# Altium integrated library 74HC4053D.IntLib: 2 symbols
Pins are listed as number, name and electrical type; pins without a type are passive.

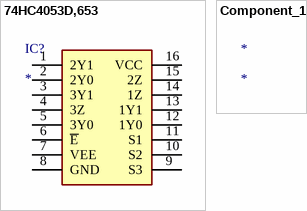
[diagram p0: symbols 74HC4053D,653 to Component_1]

## 74HC4053D,653
designator IC?
Integrated Circuit; Manufacturer_Name: Nexperia; Manufacturer_Part_Number: 74HC4053D,653; Description: 74HC(T)4053 - Triple 2-channel analog multiplexer/demultiplexer@en-us; Datasheet Link: https://assets.nexperia.com/documents/data-sheet/74HC_HCT4053.pdf; Height: 1.75mm; Arrow Part Number: 74HC4053D,653; Arrow Price/Stock: https://www.arrow.com/en/products/74hc4053d653/nexperia; Mouser Part Number: 771-74HC4053D-T; Mouser Price/Stock: https://www.mouser.co.uk/ProductDetail/Nexperia/74HC4053D653?qs=P62ublwmbi%2F49q4%252B0dLSpg%3D%3D
footprint SOIC127P600X175-16N
pins: 1 2Y1, 2 2Y0, 3 3Y1, 4 3Z, 5 3Y0, 6 ~{E}, 7 VEE, 8 GND, 9 S3, 10 S2, 11 S1, 12 1Y0, 13 1Y1, 14 1Z, 15 2Z, 16 VCC

## Component_1
designator *